# Altium integrated library STMicroelectronics Power Management DC-DC Conversion.IntLib: 186 symbols (part 4 of 4)
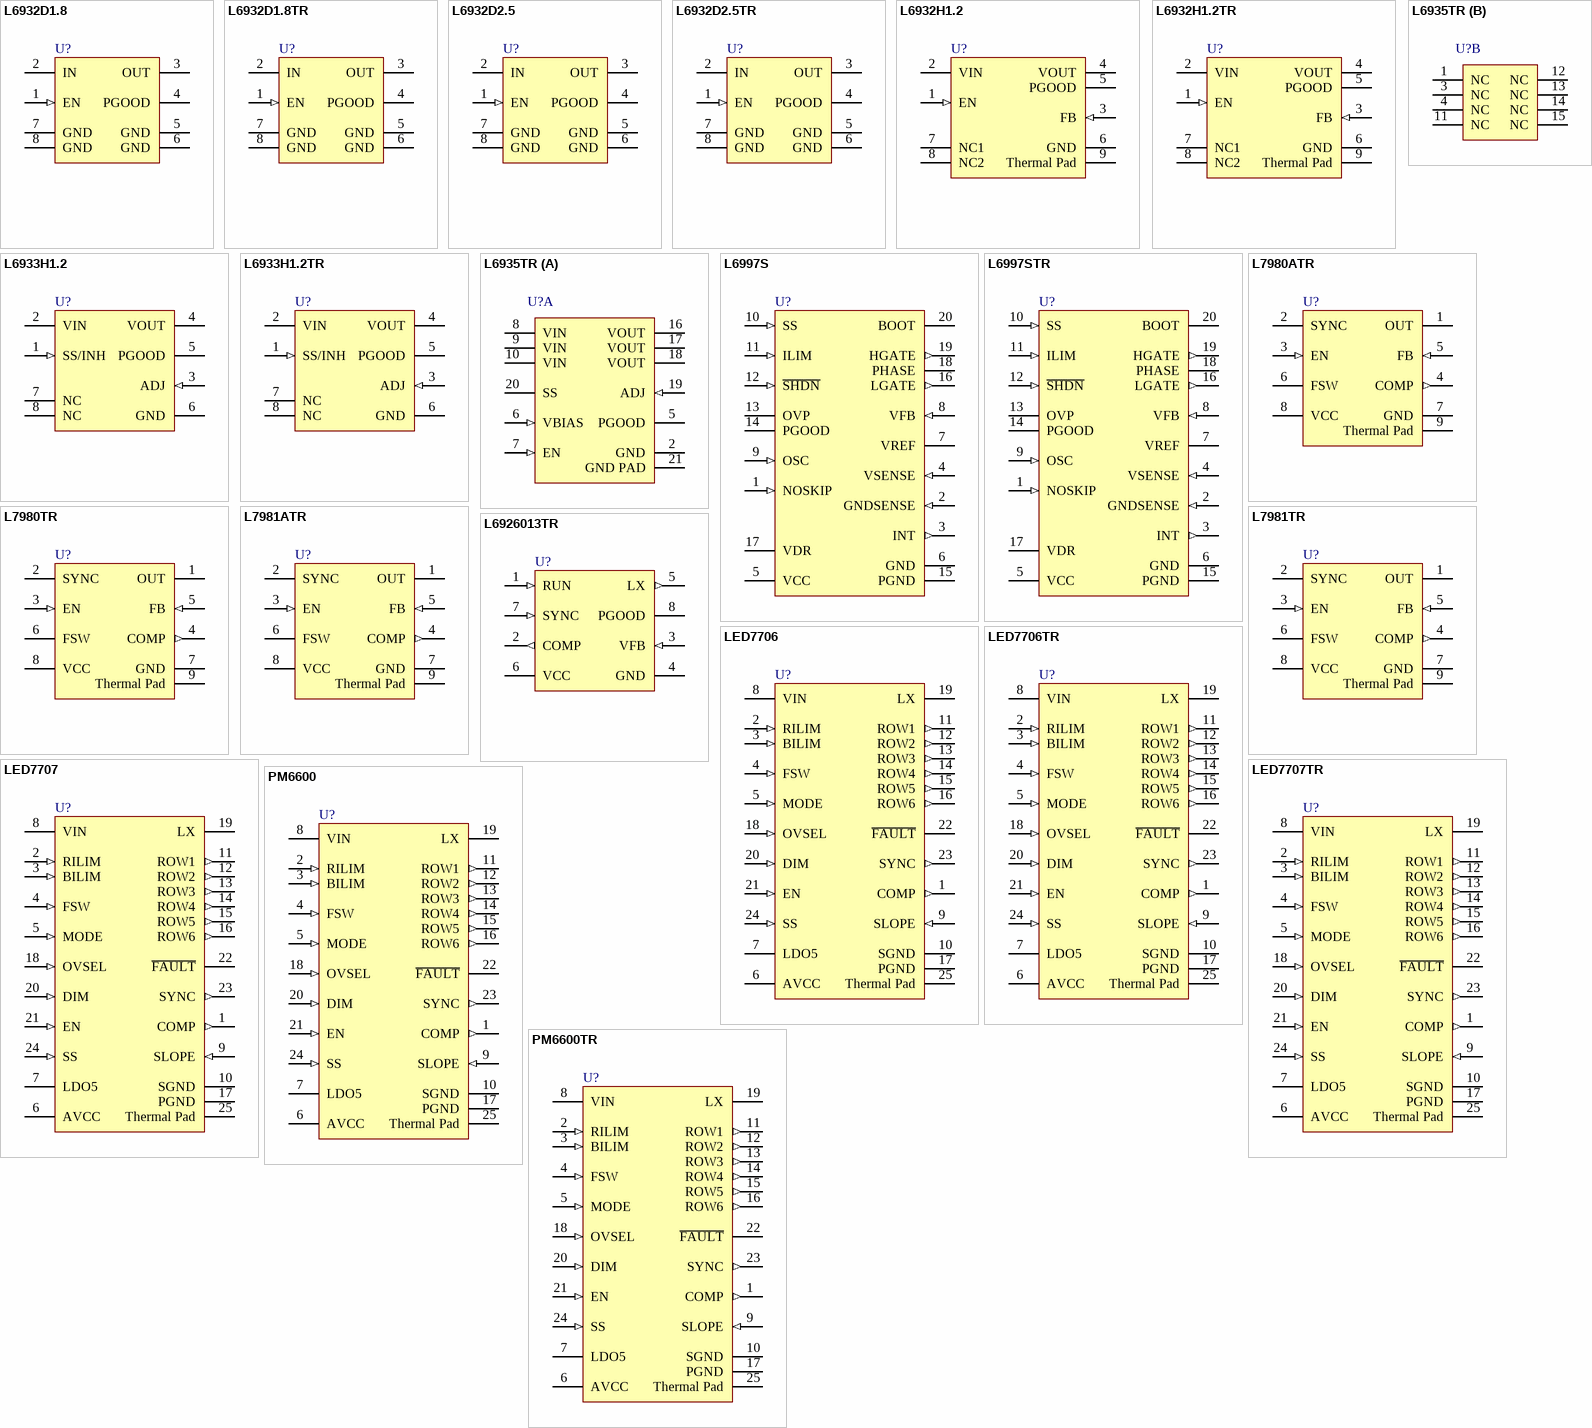
[diagram p10: symbols L6932D1.8 to PM6600TR]

## LED7707TR
designator U?
6-rows 85 mA LEDs driver with boost regulator for LCD panel backlight, 24-Pin QFN, Tape and Reel; DatasheetVersion: Apr-2009; PackageVersion: 2010; PackageReference: VFQFPN-24; PackageDescription: 24-Pin Quad Flat No-Lead, 4 x 4 mm Body, 0.5 mm Pitch, Exposed Pad; ComponentLink1Description: Manufacturer URL; ComponentLink1URL: http://www.st.com; ComponentLink2Description: Datasheet; ComponentLink2URL: http://www.st.com/internet/com/TECHNICAL_RESOURCES/TECHNICAL_LITERATURE/DATASHEET/CD00185352.pdf
footprint VFQFPN-24_N (QFN, 24-Leads, Body 4x4mm, Pitch 0.5mm, Thermal Pad 2.5x2.5mm, IPC Medium Density)
footprint VFQFPN-24_L (QFN, 24-Leads, Body 4x4mm, Pitch 0.5mm, Thermal Pad 2.5x2.5mm, IPC High Density)
footprint VFQFPN-24_M (QFN, 24-Leads, Body 4x4mm, Pitch 0.5mm, Thermal Pad 2.5x2.5mm, IPC Low Density)
pins: 1 COMP (out), 2 RILIM (in), 3 BILIM (in), 4 FSW (in), 5 MODE (in), 6 AVCC (power), 7 LDO5 (power), 8 VIN (power), 9 SLOPE (in), 10 SGND (power), 11 ROW1 (out), 12 ROW2 (out), 13 ROW3 (out), 14 ROW4 (out), 15 ROW5 (out), 16 ROW6 (out), 17 PGND (power), 18 OVSEL (in), 19 LX (oc), 20 DIM (in), 21 EN (in), 22 ~{FAULT} (oc), 23 SYNC (out), 24 SS (in), 25 Thermal Pad (power)

## PM6600
designator U?
6-rows 32 mA LEDs driver with boost regulator for LCD panel backlight, 24-Pin QFN, Tube; DatasheetVersion: Feb-2010; PackageVersion: 2010; PackageReference: VFQFPN-24; PackageDescription: 24-Pin Quad Flat No-Lead, 4 x 4 mm Body, 0.5 mm Pitch, Exposed Pad; ComponentLink1Description: Manufacturer URL; ComponentLink1URL: http://www.st.com; ComponentLink2Description: Datasheet; ComponentLink2URL: http://www.st.com/internet/com/TECHNICAL_RESOURCES/TECHNICAL_LITERATURE/DATASHEET/CD00178891.pdf
footprint VFQFPN-24_N (QFN, 24-Leads, Body 4x4mm, Pitch 0.5mm, Thermal Pad 2.5x2.5mm, IPC Medium Density)
footprint VFQFPN-24_L (QFN, 24-Leads, Body 4x4mm, Pitch 0.5mm, Thermal Pad 2.5x2.5mm, IPC High Density)
footprint VFQFPN-24_M (QFN, 24-Leads, Body 4x4mm, Pitch 0.5mm, Thermal Pad 2.5x2.5mm, IPC Low Density)
pins: 1 COMP (out), 2 RILIM (in), 3 BILIM (in), 4 FSW (in), 5 MODE (in), 6 AVCC (power), 7 LDO5 (power), 8 VIN (power), 9 SLOPE (in), 10 SGND (power), 11 ROW1 (out), 12 ROW2 (out), 13 ROW3 (out), 14 ROW4 (out), 15 ROW5 (out), 16 ROW6 (out), 17 PGND (power), 18 OVSEL (in), 19 LX (oc), 20 DIM (in), 21 EN (in), 22 ~{FAULT} (oc), 23 SYNC (out), 24 SS (in), 25 Thermal Pad (power)

## PM6600TR
designator U?
6-rows 32 mA LEDs driver with boost regulator for LCD panel backlight, 24-Pin QFN, Tape and Reel; DatasheetVersion: Feb-2010; PackageVersion: 2010; PackageReference: VFQFPN-24; PackageDescription: 24-Pin Quad Flat No-Lead, 4 x 4 mm Body, 0.5 mm Pitch, Exposed Pad; ComponentLink1Description: Manufacturer URL; ComponentLink1URL: http://www.st.com; ComponentLink2Description: Datasheet; ComponentLink2URL: http://www.st.com/internet/com/TECHNICAL_RESOURCES/TECHNICAL_LITERATURE/DATASHEET/CD00178891.pdf
footprint VFQFPN-24_N (QFN, 24-Leads, Body 4x4mm, Pitch 0.5mm, Thermal Pad 2.5x2.5mm, IPC Medium Density)
footprint VFQFPN-24_L (QFN, 24-Leads, Body 4x4mm, Pitch 0.5mm, Thermal Pad 2.5x2.5mm, IPC High Density)
footprint VFQFPN-24_M (QFN, 24-Leads, Body 4x4mm, Pitch 0.5mm, Thermal Pad 2.5x2.5mm, IPC Low Density)
pins: 1 COMP (out), 2 RILIM (in), 3 BILIM (in), 4 FSW (in), 5 MODE (in), 6 AVCC (power), 7 LDO5 (power), 8 VIN (power), 9 SLOPE (in), 10 SGND (power), 11 ROW1 (out), 12 ROW2 (out), 13 ROW3 (out), 14 ROW4 (out), 15 ROW5 (out), 16 ROW6 (out), 17 PGND (power), 18 OVSEL (in), 19 LX (oc), 20 DIM (in), 21 EN (in), 22 ~{FAULT} (oc), 23 SYNC (out), 24 SS (in), 25 Thermal Pad (power)

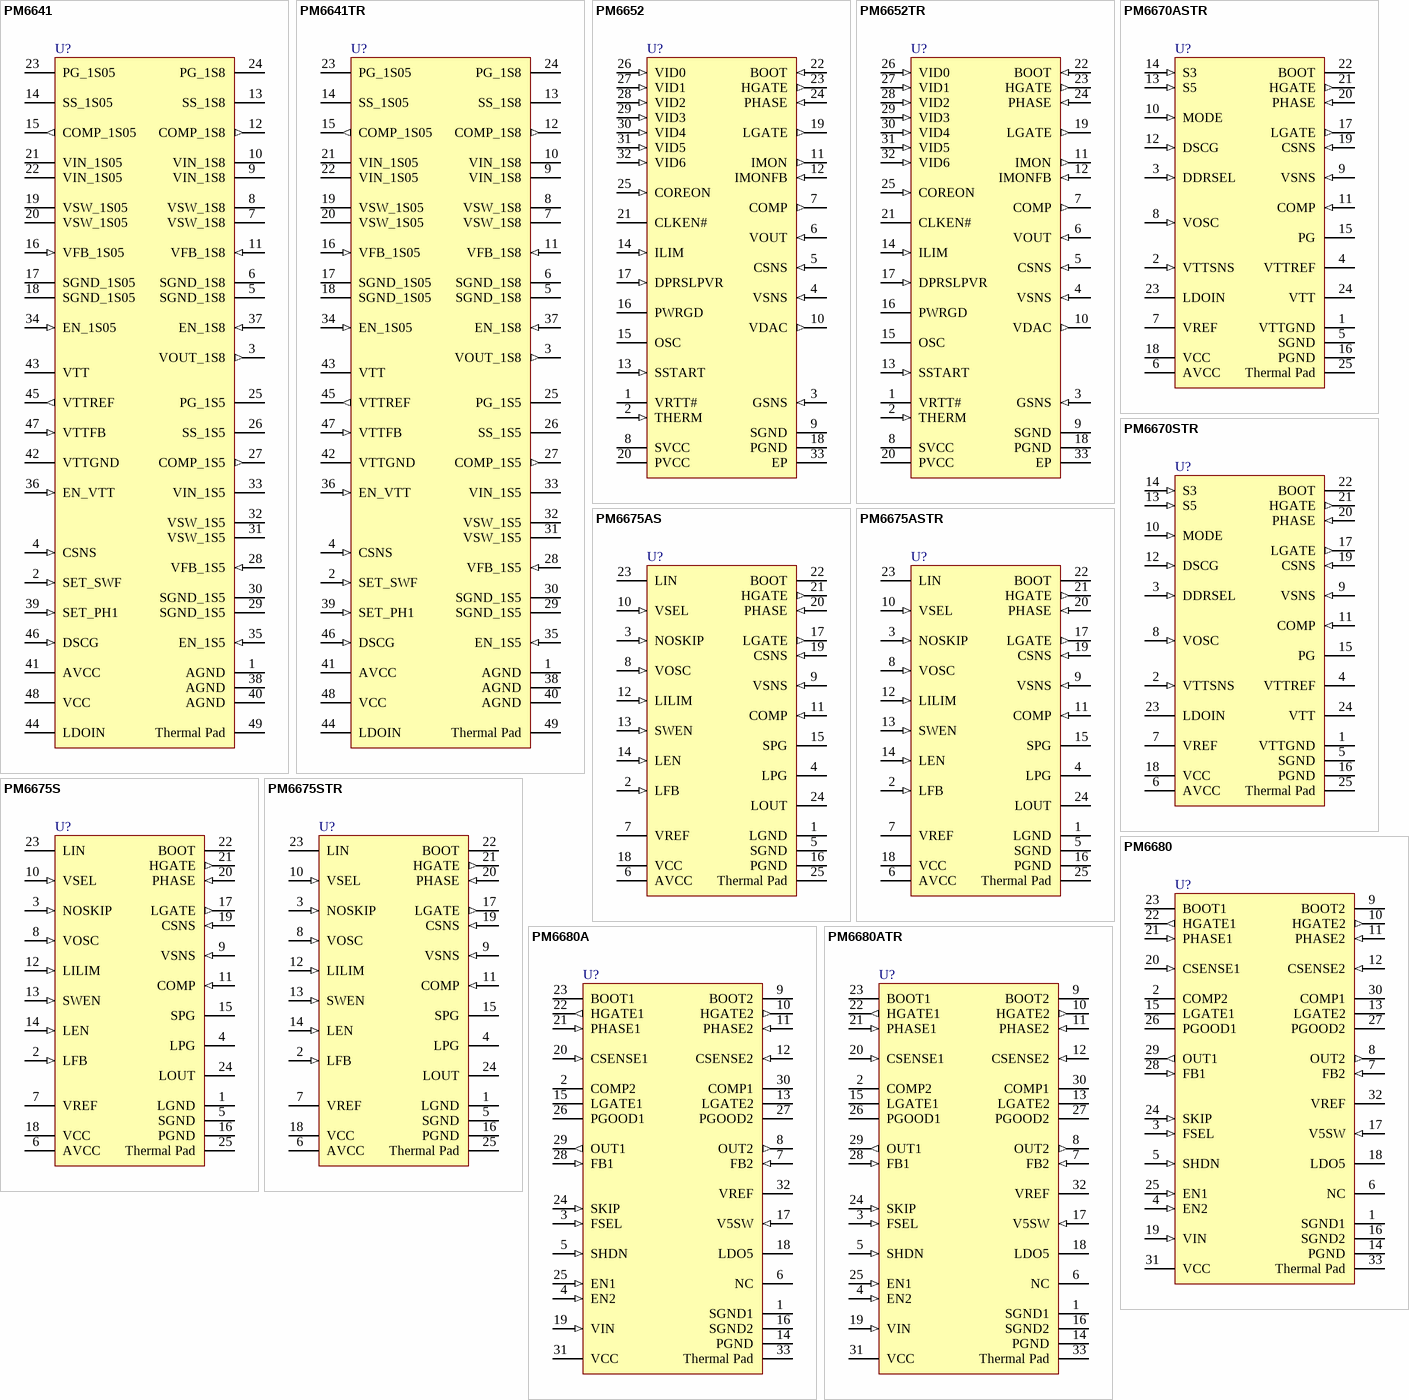
[diagram p6: symbols PM6641 to PM6680ATR]

## PM6641
designator U?
Monolithic VR for Chipset and DDR2/3 Supply for Ultra-Mobile PC (UMPC) Applications, 48-Pin VFQFPN, Tray; DatasheetVersion: May-2009; PackageVersion: 2009; PackageReference: VFQFPN-48; PackageDescription: 48-Pin Quad Flat No-Lead, 7 x 7 mm Body, 0.5 mm Pitch, Exposed Pad; ComponentLink1Description: Manufacturer URL; ComponentLink1URL: http://www.st.com; ComponentLink2Description: Datasheet; ComponentLink2URL: http://www.st.com/internet/com/TECHNICAL_RESOURCES/TECHNICAL_LITERATURE/DATASHEET/CD00159862.pdf
footprint VFQFPN-48_N (QFN, 48-Leads, Body 7x7mm, Pitch 0.5mm, Thermal Pad 4.7x4.7mm, IPC Medium Density)
footprint VFQFPN-48_L (QFN, 48-Leads, Body 7x7mm, Pitch 0.5mm, Thermal Pad 4.7x4.7mm, IPC High Density)
footprint VFQFPN-48_M (QFN, 48-Leads, Body 7x7mm, Pitch 0.5mm, Thermal Pad 4.7x4.7mm, IPC Low Density)
pins: 1 AGND (power), 2 SET_SWF (in), 3 VOUT_1S8 (out), 4 CSNS (in), 5 SGND_1S8 (power), 6 SGND_1S8 (power), 7 VSW_1S8 (power), 8 VSW_1S8 (power), 9 VIN_1S8 (power), 10 VIN_1S8 (power), 11 VFB_1S8 (in), 12 COMP_1S8 (out), 13 SS_1S8, 14 SS_1S05, 15 COMP_1S05 (out), 16 VFB_1S05 (in), 17 SGND_1S05 (power), 18 SGND_1S05 (power), 19 VSW_1S05 (power), 20 VSW_1S05 (power), 21 VIN_1S05 (power), 22 VIN_1S05 (power), 23 PG_1S05 (oc), 24 PG_1S8 (oc), 25 PG_1S5 (oc), 26 SS_1S5, 27 COMP_1S5 (out), 28 VFB_1S5 (in), 29 SGND_1S5 (power), 30 SGND_1S5 (power), 31 VSW_1S5 (power), 32 VSW_1S5 (power), 33 VIN_1S5 (power), 34 EN_1S05 (in), 35 EN_1S5 (in), 36 EN_VTT (in), 37 EN_1S8 (in), 38 AGND (power), 39 SET_PH1 (in), 40 AGND (power), 41 AVCC (power), 42 VTTGND (power), 43 VTT (power), 44 LDOIN (power), 45 VTTREF (out), 46 DSCG (in), 47 VTTFB (in), 48 VCC (power), 49 Thermal Pad (power)

## PM6641TR
designator U?
Monolithic VR for Chipset and DDR2/3 Supply for Ultra-Mobile PC (UMPC) Applications, 48-Pin VFQFPN, Tape and Reel; DatasheetVersion: May-2009; PackageVersion: 2009; PackageReference: VFQFPN-48; PackageDescription: 48-Pin Quad Flat No-Lead, 7 x 7 mm Body, 0.5 mm Pitch, Exposed Pad; ComponentLink1Description: Manufacturer URL; ComponentLink1URL: http://www.st.com; ComponentLink2Description: Datasheet; ComponentLink2URL: http://www.st.com/internet/com/TECHNICAL_RESOURCES/TECHNICAL_LITERATURE/DATASHEET/CD00159862.pdf
footprint VFQFPN-48_N (QFN, 48-Leads, Body 7x7mm, Pitch 0.5mm, Thermal Pad 4.7x4.7mm, IPC Medium Density)
footprint VFQFPN-48_L (QFN, 48-Leads, Body 7x7mm, Pitch 0.5mm, Thermal Pad 4.7x4.7mm, IPC High Density)
footprint VFQFPN-48_M (QFN, 48-Leads, Body 7x7mm, Pitch 0.5mm, Thermal Pad 4.7x4.7mm, IPC Low Density)
pins: 1 AGND (power), 2 SET_SWF (in), 3 VOUT_1S8 (out), 4 CSNS (in), 5 SGND_1S8 (power), 6 SGND_1S8 (power), 7 VSW_1S8 (power), 8 VSW_1S8 (power), 9 VIN_1S8 (power), 10 VIN_1S8 (power), 11 VFB_1S8 (in), 12 COMP_1S8 (out), 13 SS_1S8, 14 SS_1S05, 15 COMP_1S05 (out), 16 VFB_1S05 (in), 17 SGND_1S05 (power), 18 SGND_1S05 (power), 19 VSW_1S05 (power), 20 VSW_1S05 (power), 21 VIN_1S05 (power), 22 VIN_1S05 (power), 23 PG_1S05 (oc), 24 PG_1S8 (oc), 25 PG_1S5 (oc), 26 SS_1S5, 27 COMP_1S5 (out), 28 VFB_1S5 (in), 29 SGND_1S5 (power), 30 SGND_1S5 (power), 31 VSW_1S5 (power), 32 VSW_1S5 (power), 33 VIN_1S5 (power), 34 EN_1S05 (in), 35 EN_1S5 (in), 36 EN_VTT (in), 37 EN_1S8 (in), 38 AGND (power), 39 SET_PH1 (in), 40 AGND (power), 41 AVCC (power), 42 VTTGND (power), 43 VTT (power), 44 LDOIN (power), 45 VTTREF (out), 46 DSCG (in), 47 VTTFB (in), 48 VCC (power), 49 Thermal Pad (power)

## PM6652
designator U?
Single-phase multifunctional DC-DC controller for Intel platforms, 32-Pin VFQFPN, Tray; DatasheetVersion: May-2010; PackageVersion: 2008; PackageReference: VQFPN32; PackageDescription: 32-Pin Thermally Enhanced Very thin Fine pitch Quad Flat Package No-Lead, 5 x 5 x 1 mm Body, 0.5 mm Pitch, Exposed Pad; ComponentLink1Description: Manufacturer URL; ComponentLink1URL: http://www.st.com; ComponentLink2Description: Datasheet; ComponentLink2URL: http://www.st.com/internet/com/TECHNICAL_RESOURCES/TECHNICAL_LITERATURE/DATASHEET/CD00258607.pdf
footprint VQFPN32_N (QFN, 32-Leads, Body 5x5mm, Pitch 0.5mm, Thermal Pad 3.1x3.1mm, IPC Medium Density)
footprint VQFPN32_L (QFN, 32-Leads, Body 5x5mm, Pitch 0.5mm, Thermal Pad 3.1x3.1mm, IPC High Density)
footprint VQFPN32_M (QFN, 32-Leads, Body 5x5mm, Pitch 0.5mm, Thermal Pad 3.1x3.1mm, IPC Low Density)
pins: 1 VRTT# (oc), 2 THERM (in), 3 GSNS (in), 4 VSNS (in), 5 CSNS (in), 6 VOUT (in), 7 COMP (out), 8 SVCC (power), 9 SGND (power), 10 VDAC (out), 11 IMON (out), 12 IMONFB (in), 13 SSTART (in), 14 ILIM (in), 15 OSC, 16 PWRGD (oc), 17 DPRSLPVR (in), 18 PGND (power), 19 LGATE (out), 20 PVCC (power), 21 CLKEN# (oc), 22 BOOT (in), 23 HGATE (out), 24 PHASE (in), 25 COREON (in), 26 VID0 (in), 27 VID1 (in), 28 VID2 (in), 29 VID3 (in), 30 VID4 (in), 31 VID5 (in), 32 VID6 (in), 33 EP (power)

## PM6652TR
designator U?
Single-phase multifunctional DC-DC controller for Intel platforms, 32-Pin VFQFPN, Tape and Reel; DatasheetVersion: May-2010; PackageVersion: 2008; PackageReference: VQFPN32; PackageDescription: 32-Pin Thermally Enhanced Very thin Fine pitch Quad Flat Package No-Lead, 5 x 5 x 1 mm Body, 0.5 mm Pitch, Exposed Pad; ComponentLink1Description: Manufacturer URL; ComponentLink1URL: http://www.st.com; ComponentLink2Description: Datasheet; ComponentLink2URL: http://www.st.com/internet/com/TECHNICAL_RESOURCES/TECHNICAL_LITERATURE/DATASHEET/CD00258607.pdf
footprint VQFPN32_N (QFN, 32-Leads, Body 5x5mm, Pitch 0.5mm, Thermal Pad 3.1x3.1mm, IPC Medium Density)
footprint VQFPN32_L (QFN, 32-Leads, Body 5x5mm, Pitch 0.5mm, Thermal Pad 3.1x3.1mm, IPC High Density)
footprint VQFPN32_M (QFN, 32-Leads, Body 5x5mm, Pitch 0.5mm, Thermal Pad 3.1x3.1mm, IPC Low Density)
pins: 1 VRTT# (oc), 2 THERM (in), 3 GSNS (in), 4 VSNS (in), 5 CSNS (in), 6 VOUT (in), 7 COMP (out), 8 SVCC (power), 9 SGND (power), 10 VDAC (out), 11 IMON (out), 12 IMONFB (in), 13 SSTART (in), 14 ILIM (in), 15 OSC, 16 PWRGD (oc), 17 DPRSLPVR (in), 18 PGND (power), 19 LGATE (out), 20 PVCC (power), 21 CLKEN# (oc), 22 BOOT (in), 23 HGATE (out), 24 PHASE (in), 25 COREON (in), 26 VID0 (in), 27 VID1 (in), 28 VID2 (in), 29 VID3 (in), 30 VID4 (in), 31 VID5 (in), 32 VID6 (in), 33 EP (power)

## PM6670ASTR
designator U?
Complete DDR 2/3 memory power supply controller, 24-Pin VFQFPN, Tape and Reel; DatasheetVersion: Feb-2010; PackageVersion: 2010; PackageReference: VFQFPN-24; PackageDescription: 24-Pin Quad Flat No-Lead, 4 x 4 mm Body, 0.5 mm Pitch, Exposed Pad; ComponentLink1Description: Manufacturer URL; ComponentLink1URL: http://www.st.com; ComponentLink2Description: Datasheet; ComponentLink2URL: http://www.st.com/internet/com/TECHNICAL_RESOURCES/TECHNICAL_LITERATURE/DATASHEET/CD00185468.pdf
footprint VFQFPN-24_N (QFN, 24-Leads, Body 4x4mm, Pitch 0.5mm, Thermal Pad 2.5x2.5mm, IPC Medium Density)
footprint VFQFPN-24_L (QFN, 24-Leads, Body 4x4mm, Pitch 0.5mm, Thermal Pad 2.5x2.5mm, IPC High Density)
footprint VFQFPN-24_M (QFN, 24-Leads, Body 4x4mm, Pitch 0.5mm, Thermal Pad 2.5x2.5mm, IPC Low Density)
pins: 1 VTTGND (power), 2 VTTSNS (in), 3 DDRSEL (in), 4 VTTREF (power), 5 SGND (power), 6 AVCC (power), 7 VREF (power), 8 VOSC (in), 9 VSNS (in), 10 MODE (in), 11 COMP (in), 12 DSCG (in), 13 S5 (in), 14 S3 (in), 15 PG (oc), 16 PGND (power), 17 LGATE (out), 18 VCC (power), 19 CSNS (in), 20 PHASE (in), 21 HGATE (out), 22 BOOT, 23 LDOIN (power), 24 VTT (hiz), 25 Thermal Pad (power)

## PM6670STR
designator U?
Complete DDR 2/3 memory power supply controller, 24-Pin VFQFPN, Tape and Reel; DatasheetVersion: Feb-2010; PackageVersion: 2010; PackageReference: VFQFPN-24; PackageDescription: 24-Pin Quad Flat No-Lead, 4 x 4 mm Body, 0.5 mm Pitch, Exposed Pad; ComponentLink1Description: Manufacturer URL; ComponentLink1URL: http://www.st.com; ComponentLink2Description: Datasheet; ComponentLink2URL: http://www.st.com/internet/com/TECHNICAL_RESOURCES/TECHNICAL_LITERATURE/DATASHEET/CD00185390.pdf
footprint VFQFPN-24_N (QFN, 24-Leads, Body 4x4mm, Pitch 0.5mm, Thermal Pad 2.5x2.5mm, IPC Medium Density)
footprint VFQFPN-24_L (QFN, 24-Leads, Body 4x4mm, Pitch 0.5mm, Thermal Pad 2.5x2.5mm, IPC High Density)
footprint VFQFPN-24_M (QFN, 24-Leads, Body 4x4mm, Pitch 0.5mm, Thermal Pad 2.5x2.5mm, IPC Low Density)
pins: 1 VTTGND (power), 2 VTTSNS (in), 3 DDRSEL (in), 4 VTTREF (power), 5 SGND (power), 6 AVCC (power), 7 VREF (power), 8 VOSC (in), 9 VSNS (in), 10 MODE (in), 11 COMP (in), 12 DSCG (in), 13 S5 (in), 14 S3 (in), 15 PG (oc), 16 PGND (power), 17 LGATE (out), 18 VCC (power), 19 CSNS (in), 20 PHASE (in), 21 HGATE (out), 22 BOOT, 23 LDOIN (power), 24 VTT (hiz), 25 Thermal Pad (power)

## PM6675AS
designator U?
High efficiency step down controller with embedded 2A LDO regulator, 24-Pin VFQFPN, Tube; DatasheetVersion: Feb-2008; PackageVersion: 2008; PackageReference: QFN24; PackageDescription: 24-Pin Quad Flat No-Lead, 4 x 4 mm Body, 0.5 mm Pitch, Exposed Pad; ComponentLink1Description: Manufacturer URL; ComponentLink1URL: http://www.st.com; ComponentLink2Description: Datasheet; ComponentLink2URL: http://www.st.com/internet/com/TECHNICAL_RESOURCES/TECHNICAL_LITERATURE/DATASHEET/CD00185797.pdf
footprint QFN24_N (QFN, 24-Leads, Body 4x4mm, Pitch 0.5mm, Thermal Pad 2.1x2.1mm, IPC Medium Density)
footprint QFN24_L (QFN, 24-Leads, Body 4x4mm, Pitch 0.5mm, Thermal Pad 2.1x2.1mm, IPC High Density)
footprint QFN24_M (QFN, 24-Leads, Body 4x4mm, Pitch 0.5mm, Thermal Pad 2.1x2.1mm, IPC Low Density)
pins: 1 LGND (power), 2 LFB (in), 3 NOSKIP (in), 4 LPG (oc), 5 SGND (power), 6 AVCC (power), 7 VREF (power), 8 VOSC (in), 9 VSNS (in), 10 VSEL (in), 11 COMP (in), 12 LILIM (in), 13 SWEN (in), 14 LEN (in), 15 SPG (oc), 16 PGND (power), 17 LGATE (out), 18 VCC (power), 19 CSNS (in), 20 PHASE (in), 21 HGATE (out), 22 BOOT, 23 LIN (power), 24 LOUT (power), 25 Thermal Pad (power)

## PM6675ASTR
designator U?
High efficiency step down controller with embedded 2A LDO regulator, 24-Pin VFQFPN, Tape and Reel; DatasheetVersion: Feb-2008; PackageVersion: 2008; PackageReference: QFN24; PackageDescription: 24-Pin Quad Flat No-Lead, 4 x 4 mm Body, 0.5 mm Pitch, Exposed Pad; ComponentLink1Description: Manufacturer URL; ComponentLink1URL: http://www.st.com; ComponentLink2Description: Datasheet; ComponentLink2URL: http://www.st.com/internet/com/TECHNICAL_RESOURCES/TECHNICAL_LITERATURE/DATASHEET/CD00185797.pdf
footprint QFN24_N (QFN, 24-Leads, Body 4x4mm, Pitch 0.5mm, Thermal Pad 2.1x2.1mm, IPC Medium Density)
footprint QFN24_L (QFN, 24-Leads, Body 4x4mm, Pitch 0.5mm, Thermal Pad 2.1x2.1mm, IPC High Density)
footprint QFN24_M (QFN, 24-Leads, Body 4x4mm, Pitch 0.5mm, Thermal Pad 2.1x2.1mm, IPC Low Density)
pins: 1 LGND (power), 2 LFB (in), 3 NOSKIP (in), 4 LPG (oc), 5 SGND (power), 6 AVCC (power), 7 VREF (power), 8 VOSC (in), 9 VSNS (in), 10 VSEL (in), 11 COMP (in), 12 LILIM (in), 13 SWEN (in), 14 LEN (in), 15 SPG (oc), 16 PGND (power), 17 LGATE (out), 18 VCC (power), 19 CSNS (in), 20 PHASE (in), 21 HGATE (out), 22 BOOT, 23 LIN (power), 24 LOUT (power), 25 Thermal Pad (power)

## PM6675S
designator U?
High efficiency step down controller with embedded 2A LDO regulator, 24-Pin QFN, Tube; DatasheetVersion: Feb-2008; PackageVersion: 2010; PackageReference: VFQFPN-24; PackageDescription: 24-Pin Quad Flat No-Lead, 4 x 4 mm Body, 0.5 mm Pitch, Exposed Pad; ComponentLink1Description: Manufacturer URL; ComponentLink1URL: http://www.st.com; ComponentLink2Description: Datasheet; ComponentLink2URL: http://www.st.com/internet/com/TECHNICAL_RESOURCES/TECHNICAL_LITERATURE/DATASHEET/CD00185452.pdf
footprint VFQFPN-24_N (QFN, 24-Leads, Body 4x4mm, Pitch 0.5mm, Thermal Pad 2.5x2.5mm, IPC Medium Density)
footprint VFQFPN-24_L (QFN, 24-Leads, Body 4x4mm, Pitch 0.5mm, Thermal Pad 2.5x2.5mm, IPC High Density)
footprint VFQFPN-24_M (QFN, 24-Leads, Body 4x4mm, Pitch 0.5mm, Thermal Pad 2.5x2.5mm, IPC Low Density)
pins: 1 LGND (power), 2 LFB (in), 3 NOSKIP (in), 4 LPG (oc), 5 SGND (power), 6 AVCC (power), 7 VREF (power), 8 VOSC (in), 9 VSNS (in), 10 VSEL (in), 11 COMP (in), 12 LILIM (in), 13 SWEN (in), 14 LEN (in), 15 SPG (oc), 16 PGND (power), 17 LGATE (out), 18 VCC (power), 19 CSNS (in), 20 PHASE (in), 21 HGATE (out), 22 BOOT, 23 LIN (power), 24 LOUT (power), 25 Thermal Pad (power)

## PM6675STR
designator U?
High efficiency step down controller with embedded 2A LDO regulator, 24-Pin QFN, Tape and Reel; DatasheetVersion: Feb-2008; PackageVersion: 2010; PackageReference: VFQFPN-24; PackageDescription: 24-Pin Quad Flat No-Lead, 4 x 4 mm Body, 0.5 mm Pitch, Exposed Pad; ComponentLink1Description: Manufacturer URL; ComponentLink1URL: http://www.st.com; ComponentLink2Description: Datasheet; ComponentLink2URL: http://www.st.com/internet/com/TECHNICAL_RESOURCES/TECHNICAL_LITERATURE/DATASHEET/CD00185452.pdf
footprint VFQFPN-24_N (QFN, 24-Leads, Body 4x4mm, Pitch 0.5mm, Thermal Pad 2.5x2.5mm, IPC Medium Density)
footprint VFQFPN-24_L (QFN, 24-Leads, Body 4x4mm, Pitch 0.5mm, Thermal Pad 2.5x2.5mm, IPC High Density)
footprint VFQFPN-24_M (QFN, 24-Leads, Body 4x4mm, Pitch 0.5mm, Thermal Pad 2.5x2.5mm, IPC Low Density)
pins: 1 LGND (power), 2 LFB (in), 3 NOSKIP (in), 4 LPG (oc), 5 SGND (power), 6 AVCC (power), 7 VREF (power), 8 VOSC (in), 9 VSNS (in), 10 VSEL (in), 11 COMP (in), 12 LILIM (in), 13 SWEN (in), 14 LEN (in), 15 SPG (oc), 16 PGND (power), 17 LGATE (out), 18 VCC (power), 19 CSNS (in), 20 PHASE (in), 21 HGATE (out), 22 BOOT, 23 LIN (power), 24 LOUT (power), 25 Thermal Pad (power)

## PM6680
designator U?
Dual step-down controller with adjustable voltages for notebook system power, 32-Pin VFQFPN, Tray; DatasheetVersion: Jan-2008; PackageVersion: 2008; PackageReference: VQFPN32; PackageDescription: 32-Pin Thermally Enhanced Very thin Fine pitch Quad Flat Package No-Lead, 5 x 5 x 1 mm Body, 0.5 mm Pitch, Exposed Pad; ComponentLink1Description: Manufacturer URL; ComponentLink1URL: http://www.st.com; ComponentLink2Description: Datasheet; ComponentLink2URL: http://www.st.com/internet/com/TECHNICAL_RESOURCES/TECHNICAL_LITERATURE/DATASHEET/CD00097929.pdf
footprint VQFPN32_N (QFN, 32-Leads, Body 5x5mm, Pitch 0.5mm, Thermal Pad 3.1x3.1mm, IPC Medium Density)
footprint VQFPN32_L (QFN, 32-Leads, Body 5x5mm, Pitch 0.5mm, Thermal Pad 3.1x3.1mm, IPC High Density)
footprint VQFPN32_M (QFN, 32-Leads, Body 5x5mm, Pitch 0.5mm, Thermal Pad 3.1x3.1mm, IPC Low Density)
pins: 1 SGND1 (power), 2 COMP2, 3 FSEL (in), 4 EN2 (in), 5 SHDN (in), 6 NC, 7 FB2 (in), 8 OUT2 (out), 9 BOOT2, 10 HGATE2 (out), 11 PHASE2 (in), 12 CSENSE2 (in), 13 LGATE2 (hiz), 14 PGND (power), 15 LGATE1 (hiz), 16 SGND2 (power), 17 V5SW (in), 18 LDO5 (power), 19 VIN (in), 20 CSENSE1 (in), 21 PHASE1 (in), 22 HGATE1 (out), 23 BOOT1, 24 SKIP (in), 25 EN1 (in), 26 PGOOD1 (oc), 27 PGOOD2 (oc), 28 FB1 (in), 29 OUT1 (out), 30 COMP1, 31 VCC (power), 32 VREF (power), 33 Thermal Pad (power)

## PM6680A
designator U?
Dual synchronous step down controller with adjustable output voltages plus LDO, 32-Pin VFQFPN, Tube; DatasheetVersion: Dec-2007; PackageVersion: 2008; PackageReference: VQFPN32; PackageDescription: 32-Pin Thermally Enhanced Very thin Fine pitch Quad Flat Package No-Lead, 5 x 5 x 1 mm Body, 0.5 mm Pitch, Exposed Pad; ComponentLink1Description: Manufacturer URL; ComponentLink1URL: http://www.st.com; ComponentLink2Description: Datasheet; ComponentLink2URL: http://www.st.com/internet/com/TECHNICAL_RESOURCES/TECHNICAL_LITERATURE/DATASHEET/CD00135901.pdf
footprint VQFPN32_N (QFN, 32-Leads, Body 5x5mm, Pitch 0.5mm, Thermal Pad 3.1x3.1mm, IPC Medium Density)
footprint VQFPN32_L (QFN, 32-Leads, Body 5x5mm, Pitch 0.5mm, Thermal Pad 3.1x3.1mm, IPC High Density)
footprint VQFPN32_M (QFN, 32-Leads, Body 5x5mm, Pitch 0.5mm, Thermal Pad 3.1x3.1mm, IPC Low Density)
pins: 1 SGND1 (power), 2 COMP2, 3 FSEL (in), 4 EN2 (in), 5 SHDN (in), 6 NC, 7 FB2 (in), 8 OUT2 (out), 9 BOOT2, 10 HGATE2 (out), 11 PHASE2 (in), 12 CSENSE2 (in), 13 LGATE2 (hiz), 14 PGND (power), 15 LGATE1 (hiz), 16 SGND2 (power), 17 V5SW (in), 18 LDO5 (power), 19 VIN (in), 20 CSENSE1 (in), 21 PHASE1 (in), 22 HGATE1 (out), 23 BOOT1, 24 SKIP (in), 25 EN1 (in), 26 PGOOD1 (oc), 27 PGOOD2 (oc), 28 FB1 (in), 29 OUT1 (out), 30 COMP1, 31 VCC (power), 32 VREF (power), 33 Thermal Pad (power)

## PM6680ATR
designator U?
Dual synchronous step down controller with adjustable output voltages plus LDO, 32-Pin VFQFPN, Tape and Reel; DatasheetVersion: Dec-2007; PackageVersion: 2008; PackageReference: VQFPN32; PackageDescription: 32-Pin Thermally Enhanced Very thin Fine pitch Quad Flat Package No-Lead, 5 x 5 x 1 mm Body, 0.5 mm Pitch, Exposed Pad; ComponentLink1Description: Manufacturer URL; ComponentLink1URL: http://www.st.com; ComponentLink2Description: Datasheet; ComponentLink2URL: http://www.st.com/internet/com/TECHNICAL_RESOURCES/TECHNICAL_LITERATURE/DATASHEET/CD00135901.pdf
footprint VQFPN32_N (QFN, 32-Leads, Body 5x5mm, Pitch 0.5mm, Thermal Pad 3.1x3.1mm, IPC Medium Density)
footprint VQFPN32_L (QFN, 32-Leads, Body 5x5mm, Pitch 0.5mm, Thermal Pad 3.1x3.1mm, IPC High Density)
footprint VQFPN32_M (QFN, 32-Leads, Body 5x5mm, Pitch 0.5mm, Thermal Pad 3.1x3.1mm, IPC Low Density)
pins: 1 SGND1 (power), 2 COMP2, 3 FSEL (in), 4 EN2 (in), 5 SHDN (in), 6 NC, 7 FB2 (in), 8 OUT2 (out), 9 BOOT2, 10 HGATE2 (out), 11 PHASE2 (in), 12 CSENSE2 (in), 13 LGATE2 (hiz), 14 PGND (power), 15 LGATE1 (hiz), 16 SGND2 (power), 17 V5SW (in), 18 LDO5 (power), 19 VIN (in), 20 CSENSE1 (in), 21 PHASE1 (in), 22 HGATE1 (out), 23 BOOT1, 24 SKIP (in), 25 EN1 (in), 26 PGOOD1 (oc), 27 PGOOD2 (oc), 28 FB1 (in), 29 OUT1 (out), 30 COMP1, 31 VCC (power), 32 VREF (power), 33 Thermal Pad (power)

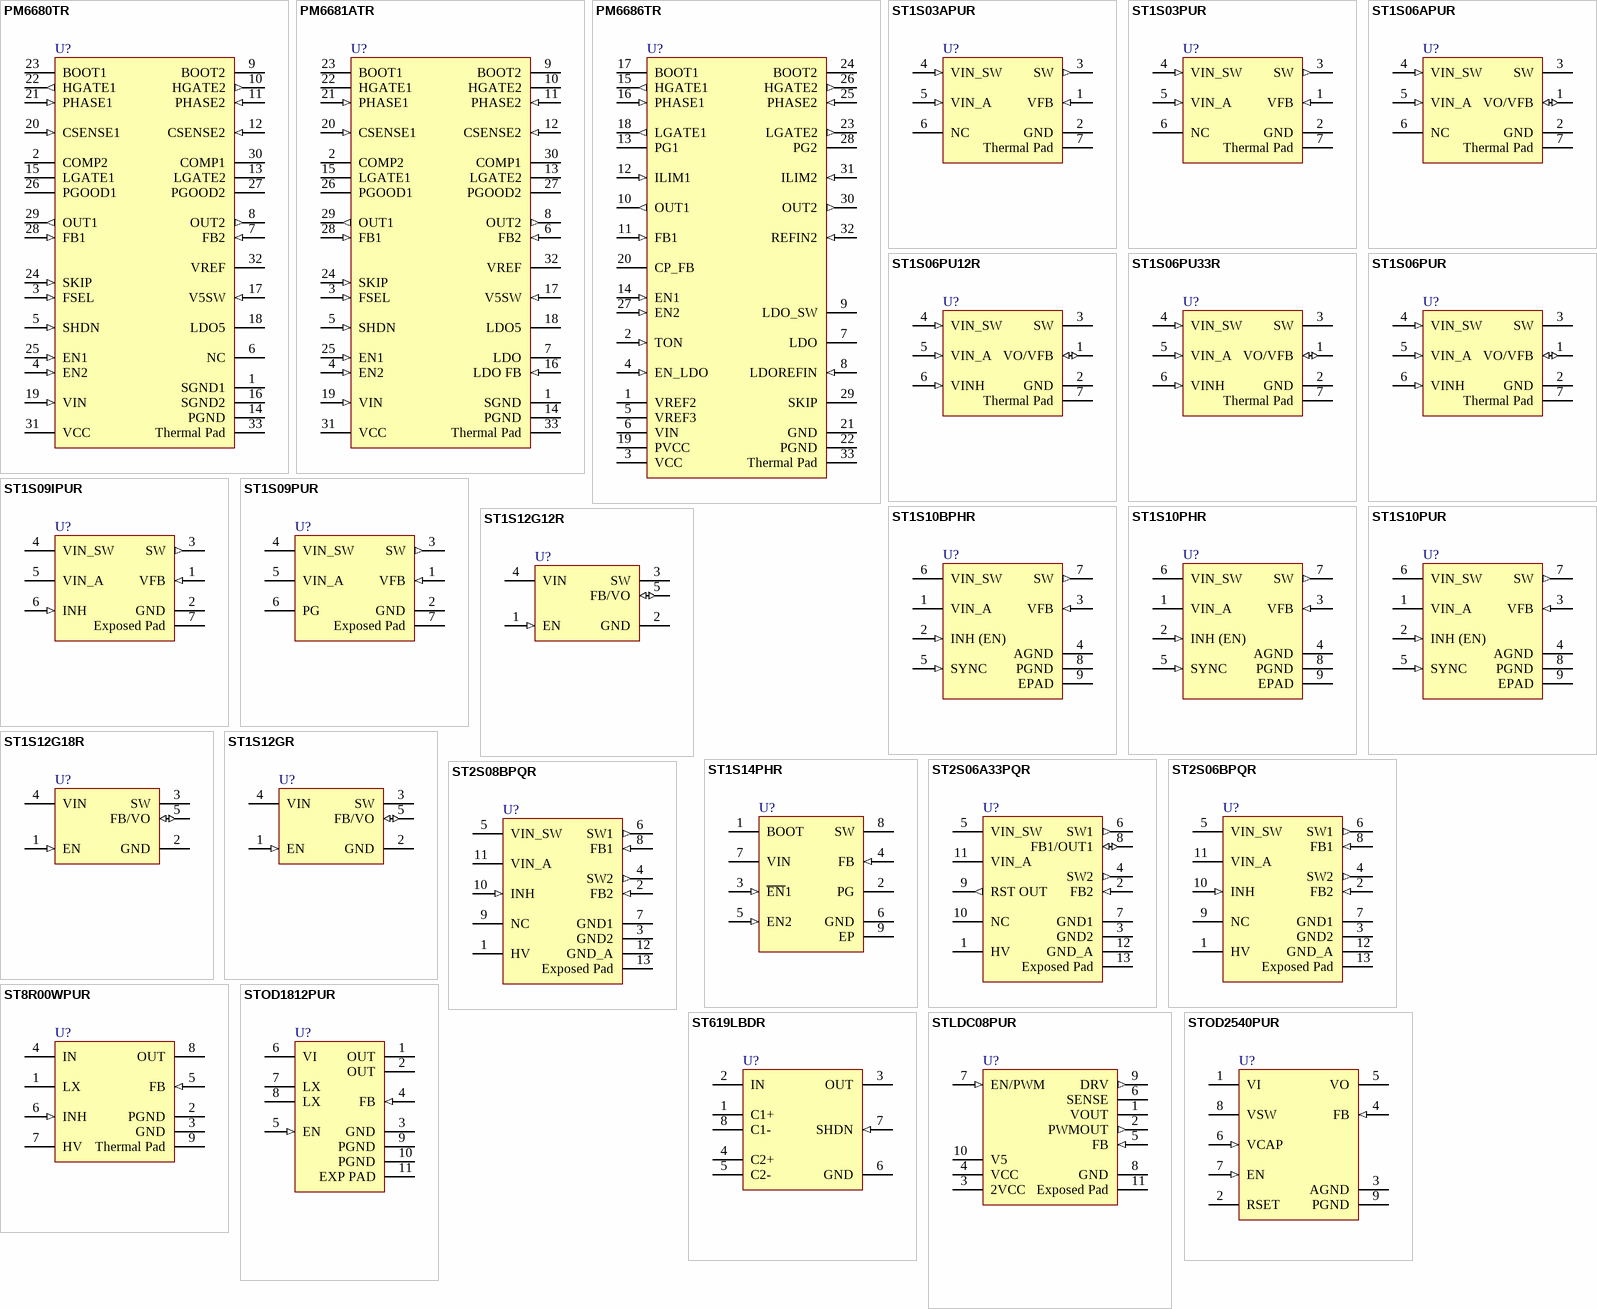
[diagram p7: symbols PM6680TR to STOD2540PUR]

## PM6680TR
designator U?
Dual step-down controller with adjustable voltages for notebook system power, 32-Pin VFQFPN, Tape and Reel; DatasheetVersion: Jan-2008; PackageVersion: 2008; PackageReference: VQFPN32; PackageDescription: 32-Pin Thermally Enhanced Very thin Fine pitch Quad Flat Package No-Lead, 5 x 5 x 1 mm Body, 0.5 mm Pitch, Exposed Pad; ComponentLink1Description: Manufacturer URL; ComponentLink1URL: http://www.st.com; ComponentLink2Description: Datasheet; ComponentLink2URL: http://www.st.com/internet/com/TECHNICAL_RESOURCES/TECHNICAL_LITERATURE/DATASHEET/CD00097929.pdf
footprint VQFPN32_N (QFN, 32-Leads, Body 5x5mm, Pitch 0.5mm, Thermal Pad 3.1x3.1mm, IPC Medium Density)
footprint VQFPN32_L (QFN, 32-Leads, Body 5x5mm, Pitch 0.5mm, Thermal Pad 3.1x3.1mm, IPC High Density)
footprint VQFPN32_M (QFN, 32-Leads, Body 5x5mm, Pitch 0.5mm, Thermal Pad 3.1x3.1mm, IPC Low Density)
pins: 1 SGND1 (power), 2 COMP2, 3 FSEL (in), 4 EN2 (in), 5 SHDN (in), 6 NC, 7 FB2 (in), 8 OUT2 (out), 9 BOOT2, 10 HGATE2 (out), 11 PHASE2 (in), 12 CSENSE2 (in), 13 LGATE2 (hiz), 14 PGND (power), 15 LGATE1 (hiz), 16 SGND2 (power), 17 V5SW (in), 18 LDO5 (power), 19 VIN (in), 20 CSENSE1 (in), 21 PHASE1 (in), 22 HGATE1 (out), 23 BOOT1, 24 SKIP (in), 25 EN1 (in), 26 PGOOD1 (oc), 27 PGOOD2 (oc), 28 FB1 (in), 29 OUT1 (out), 30 COMP1, 31 VCC (power), 32 VREF (power), 33 Thermal Pad (power)

## PM6681ATR
designator U?
Dual synchronous step down controller with adjustable LDO, 32-Pin VFQFPN, Tape and Reel; DatasheetVersion: Jun-2008; PackageVersion: 2008; PackageReference: VQFPN32; PackageDescription: 32-Pin Thermally Enhanced Very thin Fine pitch Quad Flat Package No-Lead, 5 x 5 x 1 mm Body, 0.5 mm Pitch, Exposed Pad; ComponentLink1Description: Manufacturer URL; ComponentLink1URL: http://www.st.com; ComponentLink2Description: Datasheet; ComponentLink2URL: http://www.st.com/internet/com/TECHNICAL_RESOURCES/TECHNICAL_LITERATURE/DATASHEET/CD00144224.pdf
footprint VQFPN32_N (QFN, 32-Leads, Body 5x5mm, Pitch 0.5mm, Thermal Pad 3.1x3.1mm, IPC Medium Density)
footprint VQFPN32_L (QFN, 32-Leads, Body 5x5mm, Pitch 0.5mm, Thermal Pad 3.1x3.1mm, IPC High Density)
footprint VQFPN32_M (QFN, 32-Leads, Body 5x5mm, Pitch 0.5mm, Thermal Pad 3.1x3.1mm, IPC Low Density)
pins: 1 SGND (power), 2 COMP2, 3 FSEL (in), 4 EN2 (in), 5 SHDN (in), 6 FB2 (in), 7 LDO (power), 8 OUT2 (out), 9 BOOT2, 10 HGATE2 (hiz), 11 PHASE2 (in), 12 CSENSE2 (in), 13 LGATE2 (hiz), 14 PGND (power), 15 LGATE1 (hiz), 16 LDO FB (in), 17 V5SW (in), 18 LDO5 (power), 19 VIN (in), 20 CSENSE1 (in), 21 PHASE1 (in), 22 HGATE1 (hiz), 23 BOOT1, 24 SKIP (in), 25 EN1 (in), 26 PGOOD1 (oc), 27 PGOOD2 (oc), 28 FB1 (in), 29 OUT1 (out), 30 COMP1, 31 VCC (power), 32 VREF (power), 33 Thermal Pad (power)

## PM6686TR
designator U?
Dual step-down controller with adjustable voltages, adjustable LDO and auxiliary charge pump controller for notebook, 32-Pin VFQFPN, Tape and Reel; DatasheetVersion: Jul-2009; PackageVersion: 2008; PackageReference: VQFPN32; PackageDescription: 32-Pin Thermally Enhanced Very thin Fine pitch Quad Flat Package No-Lead, 5 x 5 x 1 mm Body, 0.5 mm Pitch, Exposed Pad; ComponentLink1Description: Manufacturer URL; ComponentLink1URL: http://www.st.com; ComponentLink2Description: Datasheet; ComponentLink2URL: http://www.st.com/internet/com/TECHNICAL_RESOURCES/TECHNICAL_LITERATURE/DATASHEET/CD00221380.pdf
footprint VQFPN32_N (QFN, 32-Leads, Body 5x5mm, Pitch 0.5mm, Thermal Pad 3.1x3.1mm, IPC Medium Density)
footprint VQFPN32_L (QFN, 32-Leads, Body 5x5mm, Pitch 0.5mm, Thermal Pad 3.1x3.1mm, IPC High Density)
footprint VQFPN32_M (QFN, 32-Leads, Body 5x5mm, Pitch 0.5mm, Thermal Pad 3.1x3.1mm, IPC Low Density)
pins: 1 VREF2 (power), 2 TON (in), 3 VCC (power), 4 EN_LDO (in), 5 VREF3 (power), 6 VIN (power), 7 LDO (power), 8 LDOREFIN (in), 9 LDO_SW (power), 10 OUT1 (out), 11 FB1 (in), 12 ILIM1 (in), 13 PG1 (oc), 14 EN1 (in), 15 HGATE1 (out), 16 PHASE1 (in), 17 BOOT1, 18 LGATE1 (out), 19 PVCC (power), 20 CP_FB, 21 GND (power), 22 PGND (power), 23 LGATE2 (out), 24 BOOT2, 25 PHASE2 (in), 26 HGATE2 (out), 27 EN2 (in), 28 PG2 (oc), 29 SKIP, 30 OUT2 (out), 31 ILIM2 (in), 32 REFIN2 (in), 33 Thermal Pad (power)

## ST1S03APUR
designator U?
1.5 A, 1.5 MHz adjustable, step-down switching regulator, 6-Pin DFN; DatasheetVersion: Jun-2008; PackageVersion: 2008; PackageReference: DFN6D; PackageDescription: 6-Pin Plastic, Dual LLP, 3 x 3 mm Body, 0.95 mm Pitch, Exposed Pad; ComponentLink1Description: Manufacturer URL; ComponentLink1URL: http://www.st.com; ComponentLink2Description: Datasheet; ComponentLink2URL: http://www.st.com/internet/com/TECHNICAL_RESOURCES/TECHNICAL_LITERATURE/DATASHEET/CD00105942.pdf
footprint DFN6D_N (SON, 6-Leads, Body 3x3mm, Pitch 0.95mm, Thermal Pad 2.4x1.65mm, IPC Medium Density)
footprint DFN6D_L (SON, 6-Leads, Body 3x3mm, Pitch 0.95mm, Thermal Pad 2.4x1.65mm, IPC High Density)
footprint DFN6D_M (SON, 6-Leads, Body 3x3mm, Pitch 0.95mm, Thermal Pad 2.4x1.65mm, IPC Low Density)
pins: 1 VFB (in), 2 GND (power), 3 SW (out), 4 VIN_SW (in), 5 VIN_A (in), 6 NC, 7 Thermal Pad

## ST1S03PUR
designator U?
1.5 A, 1.5 MHz adjustable, step-down switching regulator, DFN6D; DatasheetVersion: Mar-2008; PackageVersion: 2008; PackageReference: DFN6D; PackageDescription: 6-Pin Plastic, Dual LLP, 3 x 3 mm Body, 0.95 mm Pitch, Exposed Pad; ComponentLink1Description: Manufacturer URL; ComponentLink1URL: http://www.st.com; ComponentLink2Description: Datasheet; ComponentLink2URL: http://www.st.com/internet/com/TECHNICAL_RESOURCES/TECHNICAL_LITERATURE/DATASHEET/CD00046583.pdf
footprint DFN6D_N (SON, 6-Leads, Body 3x3mm, Pitch 0.95mm, Thermal Pad 2.4x1.65mm, IPC Medium Density)
footprint DFN6D_L (SON, 6-Leads, Body 3x3mm, Pitch 0.95mm, Thermal Pad 2.4x1.65mm, IPC High Density)
footprint DFN6D_M (SON, 6-Leads, Body 3x3mm, Pitch 0.95mm, Thermal Pad 2.4x1.65mm, IPC Low Density)
pins: 1 VFB (in), 2 GND (power), 3 SW (out), 4 VIN_SW (in), 5 VIN_A (in), 6 NC, 7 Thermal Pad

## ST1S06APUR
designator U?
Synchronous rectification, 1.5 A, 1.5 MHz adjustable, step-down switching regulator, 6-Pin DFN; DatasheetVersion: May-2009; PackageVersion: 2008; PackageReference: DFN6D; PackageDescription: 6-Pin Plastic, Dual LLP, 3 x 3 mm Body, 0.95 mm Pitch, Exposed Pad; ComponentLink1Description: Manufacturer URL; ComponentLink1URL: http://www.st.com; ComponentLink2Description: Datasheet; ComponentLink2URL: http://www.st.com/internet/com/TECHNICAL_RESOURCES/TECHNICAL_LITERATURE/DATASHEET/CD00100211.pdf
footprint DFN6D_N (SON, 6-Leads, Body 3x3mm, Pitch 0.95mm, Thermal Pad 2.4x1.65mm, IPC Medium Density)
footprint DFN6D_L (SON, 6-Leads, Body 3x3mm, Pitch 0.95mm, Thermal Pad 2.4x1.65mm, IPC High Density)
footprint DFN6D_M (SON, 6-Leads, Body 3x3mm, Pitch 0.95mm, Thermal Pad 2.4x1.65mm, IPC Low Density)
pins: 1 VO/VFB (io), 2 GND (power), 3 SW, 4 VIN_SW (in), 5 VIN_A (in), 6 NC, 7 Thermal Pad (power)

## ST1S06PU12R
designator U?
Synchronous rectification with inhibit, 1.5 A, 1.5 MHz adjustable, step-down switching regulator, 6-Pin DFN; DatasheetVersion: May-2009; PackageVersion: 2008; PackageReference: DFN6D; PackageDescription: 6-Pin Plastic, Dual LLP, 3 x 3 mm Body, 0.95 mm Pitch, Exposed Pad; ComponentLink1Description: Manufacturer URL; ComponentLink1URL: http://www.st.com; ComponentLink2Description: Datasheet; ComponentLink2URL: http://www.st.com/internet/com/TECHNICAL_RESOURCES/TECHNICAL_LITERATURE/DATASHEET/CD00100211.pdf
footprint DFN6D_N (SON, 6-Leads, Body 3x3mm, Pitch 0.95mm, Thermal Pad 2.4x1.65mm, IPC Medium Density)
footprint DFN6D_L (SON, 6-Leads, Body 3x3mm, Pitch 0.95mm, Thermal Pad 2.4x1.65mm, IPC High Density)
footprint DFN6D_M (SON, 6-Leads, Body 3x3mm, Pitch 0.95mm, Thermal Pad 2.4x1.65mm, IPC Low Density)
pins: 1 VO/VFB (io), 2 GND (power), 3 SW, 4 VIN_SW (in), 5 VIN_A (in), 6 VINH (in), 7 Thermal Pad (power)

## ST1S06PU33R
designator U?
Synchronous rectification with inhibit, 1.5 A, 1.5 MHz adjustable, step-down switching regulator, 6-Pin DFN; DatasheetVersion: May-2009; PackageVersion: 2008; PackageReference: DFN6D; PackageDescription: 6-Pin Plastic, Dual LLP, 3 x 3 mm Body, 0.95 mm Pitch, Exposed Pad; ComponentLink1Description: Manufacturer URL; ComponentLink1URL: http://www.st.com; ComponentLink2Description: Datasheet; ComponentLink2URL: http://www.st.com/internet/com/TECHNICAL_RESOURCES/TECHNICAL_LITERATURE/DATASHEET/CD00100211.pdf
footprint DFN6D_N (SON, 6-Leads, Body 3x3mm, Pitch 0.95mm, Thermal Pad 2.4x1.65mm, IPC Medium Density)
footprint DFN6D_L (SON, 6-Leads, Body 3x3mm, Pitch 0.95mm, Thermal Pad 2.4x1.65mm, IPC High Density)
footprint DFN6D_M (SON, 6-Leads, Body 3x3mm, Pitch 0.95mm, Thermal Pad 2.4x1.65mm, IPC Low Density)
pins: 1 VO/VFB (io), 2 GND (power), 3 SW, 4 VIN_SW (in), 5 VIN_A (in), 6 VINH (in), 7 Thermal Pad (power)

## ST1S06PUR
designator U?
Synchronous rectification with inhibit, 1.5 A, 1.5 MHz adjustable, step-down switching regulator, 6-Pin DFN; DatasheetVersion: May-2009; PackageVersion: 2008; PackageReference: DFN6D; PackageDescription: 6-Pin Plastic, Dual LLP, 3 x 3 mm Body, 0.95 mm Pitch, Exposed Pad; ComponentLink1Description: Manufacturer URL; ComponentLink1URL: http://www.st.com; ComponentLink2Description: Datasheet; ComponentLink2URL: http://www.st.com/internet/com/TECHNICAL_RESOURCES/TECHNICAL_LITERATURE/DATASHEET/CD00100211.pdf
footprint DFN6D_N (SON, 6-Leads, Body 3x3mm, Pitch 0.95mm, Thermal Pad 2.4x1.65mm, IPC Medium Density)
footprint DFN6D_L (SON, 6-Leads, Body 3x3mm, Pitch 0.95mm, Thermal Pad 2.4x1.65mm, IPC High Density)
footprint DFN6D_M (SON, 6-Leads, Body 3x3mm, Pitch 0.95mm, Thermal Pad 2.4x1.65mm, IPC Low Density)
pins: 1 VO/VFB (io), 2 GND (power), 3 SW, 4 VIN_SW (in), 5 VIN_A (in), 6 VINH (in), 7 Thermal Pad (power)

## ST1S09IPUR
designator U?
Synchronous rectification with inhibit, 2 A, 1.5 MHz adjustable, step-down switching regulator, 6-Pin DFN, Tape and Reel; DatasheetVersion: Apr-2010; PackageVersion: 2008; PackageReference: DFN6D; PackageDescription: 6-Pin Plastic, Dual LLP, 3 x 3 mm Body, 0.95 mm Pitch, Exposed Pad; ComponentLink1Description: Manufacturer URL; ComponentLink1URL: http://www.st.com; ComponentLink2Description: Datasheet; ComponentLink2URL: http://www.st.com/internet/com/TECHNICAL_RESOURCES/TECHNICAL_LITERATURE/DATASHEET/CD00162884.pdf
footprint DFN6D_N (SON, 6-Leads, Body 3x3mm, Pitch 0.95mm, Thermal Pad 2.4x1.65mm, IPC Medium Density)
footprint DFN6D_L (SON, 6-Leads, Body 3x3mm, Pitch 0.95mm, Thermal Pad 2.4x1.65mm, IPC High Density)
footprint DFN6D_M (SON, 6-Leads, Body 3x3mm, Pitch 0.95mm, Thermal Pad 2.4x1.65mm, IPC Low Density)
pins: 1 VFB (in), 2 GND (power), 3 SW (out), 4 VIN_SW (power), 5 VIN_A (power), 6 INH (in), 7 Exposed Pad (power)

## ST1S09PUR
designator U?
Synchronous rectification with inhibit, 2 A, 1.5 MHz adjustable, step-down switching regulator, 6-Pin DFN, Tape and Reel; DatasheetVersion: Apr-2010; PackageVersion: 2008; PackageReference: DFN6D; PackageDescription: 6-Pin Plastic, Dual LLP, 3 x 3 mm Body, 0.95 mm Pitch, Exposed Pad; ComponentLink1Description: Manufacturer URL; ComponentLink1URL: http://www.st.com; ComponentLink2Description: Datasheet; ComponentLink2URL: http://www.st.com/internet/com/TECHNICAL_RESOURCES/TECHNICAL_LITERATURE/DATASHEET/CD00162884.pdf
footprint DFN6D_N (SON, 6-Leads, Body 3x3mm, Pitch 0.95mm, Thermal Pad 2.4x1.65mm, IPC Medium Density)
footprint DFN6D_L (SON, 6-Leads, Body 3x3mm, Pitch 0.95mm, Thermal Pad 2.4x1.65mm, IPC High Density)
footprint DFN6D_M (SON, 6-Leads, Body 3x3mm, Pitch 0.95mm, Thermal Pad 2.4x1.65mm, IPC Low Density)
pins: 1 VFB (in), 2 GND (power), 3 SW (out), 4 VIN_SW (power), 5 VIN_A (power), 6 PG (oc), 7 Exposed Pad (power)

## ST1S10BPHR
designator U?
Monolithic synchronous step-down regulator, 8-Pin HSOP, Tape and Reel; DatasheetVersion: Mar-2011; PackageVersion: 2007; PackageReference: HSO-8; PackageDescription: 8-Pin Small Outline Integrated Circuit 1.27 mm Pitch; ComponentLink1Description: Manufacturer URL; ComponentLink1URL: http://www.st.com; ComponentLink2Description: Datasheet; ComponentLink2URL: http://www.st.com/internet/com/TECHNICAL_RESOURCES/TECHNICAL_LITERATURE/DATASHEET/CD00169322.pdf
footprint HSO-8_N (SOIC, 8-Leads, Body 4.9x3.9mm, Pitch 1.27mm, Thermal Pad, IPC Medium Density)
footprint HSO-8_L (SOIC, 8-Leads, Body 4.9x3.9mm, Pitch 1.27mm, Thermal Pad, IPC High Density)
footprint HSO-8_M (SOIC, 8-Leads, Body 4.9x3.9mm, Pitch 1.27mm, Thermal Pad, IPC Low Density)
pins: 1 VIN_A (power), 2 INH (EN) (in), 3 VFB (in), 4 AGND (power), 5 SYNC (in), 6 VIN_SW (power), 7 SW (out), 8 PGND (power), 9 EPAD (power)

## ST1S10PHR
designator U?
Monolithic synchronous step-down regulator, 8-Pin HSOP, Tape and Reel; DatasheetVersion: Mar-2011; PackageVersion: 2007; PackageReference: HSO-8; PackageDescription: 8-Pin Small Outline Integrated Circuit 1.27 mm Pitch; ComponentLink1Description: Manufacturer URL; ComponentLink1URL: http://www.st.com; ComponentLink2Description: Datasheet; ComponentLink2URL: http://www.st.com/internet/com/TECHNICAL_RESOURCES/TECHNICAL_LITERATURE/DATASHEET/CD00169322.pdf
footprint HSO-8_N (SOIC, 8-Leads, Body 4.9x3.9mm, Pitch 1.27mm, Thermal Pad, IPC Medium Density)
footprint HSO-8_L (SOIC, 8-Leads, Body 4.9x3.9mm, Pitch 1.27mm, Thermal Pad, IPC High Density)
footprint HSO-8_M (SOIC, 8-Leads, Body 4.9x3.9mm, Pitch 1.27mm, Thermal Pad, IPC Low Density)
pins: 1 VIN_A (power), 2 INH (EN) (in), 3 VFB (in), 4 AGND (power), 5 SYNC (in), 6 VIN_SW (power), 7 SW (out), 8 PGND (power), 9 EPAD (power)

## ST1S10PUR
designator U?
Monolithic synchronous step-down regulator, 8-Pin DFN, Tape and Reel; DatasheetVersion: Mar-2011; PackageVersion: 2009; PackageReference: DFN(4x4); PackageDescription: 8-Pin DFN, 4 x 4 mm Body, 0.8 mm Pitch, Exposed Pad; ComponentLink1Description: Manufacturer URL; ComponentLink1URL: http://www.st.com; ComponentLink2Description: Datasheet; ComponentLink2URL: http://www.st.com/internet/com/TECHNICAL_RESOURCES/TECHNICAL_LITERATURE/DATASHEET/CD00169322.pdf
footprint DFN(4x4)_N (SON, 8-Leads, Body 4x4mm, Pitch 0.8mm, Thermal Pad 3x2.2mm, IPC Medium Density)
footprint DFN(4x4)_L (SON, 8-Leads, Body 4x4mm, Pitch 0.8mm, Thermal Pad 3x2.2mm, IPC High Density)
footprint DFN(4x4)_M (SON, 8-Leads, Body 4x4mm, Pitch 0.8mm, Thermal Pad 3x2.2mm, IPC Low Density)
pins: 1 VIN_A (power), 2 INH (EN) (in), 3 VFB (in), 4 AGND (power), 5 SYNC (in), 6 VIN_SW (power), 7 SW (out), 8 PGND (power), 9 EPAD (power)

## ST1S12G12R
designator U?
Synchronous rectification with inhibit, 0.7 A, 1.7 MHz fixed, step-down switching regulator, 5-Pin TSOT, Tape and Reel; DatasheetVersion: Jun-2011; PackageVersion: 2011; PackageReference: TSOT23-5L; PackageDescription: 5-Pin SOT-23 Package, 2.9 x 1.6 mm Body, 0.95 mm Pitch, 2.8 mm Lead Span; ComponentLink1Description: Manufacturer URL; ComponentLink1URL: http://www.st.com; ComponentLink2Description: Datasheet; ComponentLink2URL: http://www.st.com/internet/com/TECHNICAL_RESOURCES/TECHNICAL_LITERATURE/DATASHEET/CD00181873.pdf
footprint TSOT23-5L_N (SOT23, 5-Leads, Body 2.9x1.6mm, Pitch 0.95mm, Lead Span 2.8mm, IPC Medium Density)
footprint TSOT23-5L_L (SOT23, 5-Leads, Body 2.9x1.6mm, Pitch 0.95mm, Lead Span 2.8mm, IPC High Density)
footprint TSOT23-5L_M (SOT23, 5-Leads, Body 2.9x1.6mm, Pitch 0.95mm, Lead Span 2.8mm, IPC Low Density)
pins: 1 EN (in), 2 GND (power), 3 SW (power), 4 VIN (power), 5 FB/VO (io)

## ST1S12G18R
designator U?
Synchronous rectification with inhibit, 0.7 A, 1.7 MHz fixed, step-down switching regulator, 5-Pin TSOT, Tape and Reel; DatasheetVersion: Jun-2011; PackageVersion: 2011; PackageReference: TSOT23-5L; PackageDescription: 5-Pin SOT-23 Package, 2.9 x 1.6 mm Body, 0.95 mm Pitch, 2.8 mm Lead Span; ComponentLink1Description: Manufacturer URL; ComponentLink1URL: http://www.st.com; ComponentLink2Description: Datasheet; ComponentLink2URL: http://www.st.com/internet/com/TECHNICAL_RESOURCES/TECHNICAL_LITERATURE/DATASHEET/CD00181873.pdf
footprint TSOT23-5L_N (SOT23, 5-Leads, Body 2.9x1.6mm, Pitch 0.95mm, Lead Span 2.8mm, IPC Medium Density)
footprint TSOT23-5L_L (SOT23, 5-Leads, Body 2.9x1.6mm, Pitch 0.95mm, Lead Span 2.8mm, IPC High Density)
footprint TSOT23-5L_M (SOT23, 5-Leads, Body 2.9x1.6mm, Pitch 0.95mm, Lead Span 2.8mm, IPC Low Density)
pins: 1 EN (in), 2 GND (power), 3 SW (power), 4 VIN (power), 5 FB/VO (io)

## ST1S12GR
designator U?
Synchronous rectification with inhibit, 0.7 A, 1.7 MHz adjustable, step-down switching regulator, 5-Pin TSOT, Tape and Reel; DatasheetVersion: Jun-2011; PackageVersion: 2011; PackageReference: TSOT23-5L; PackageDescription: 5-Pin SOT-23 Package, 2.9 x 1.6 mm Body, 0.95 mm Pitch, 2.8 mm Lead Span; ComponentLink1Description: Manufacturer URL; ComponentLink1URL: http://www.st.com; ComponentLink2Description: Datasheet; ComponentLink2URL: http://www.st.com/internet/com/TECHNICAL_RESOURCES/TECHNICAL_LITERATURE/DATASHEET/CD00181873.pdf
footprint TSOT23-5L_N (SOT23, 5-Leads, Body 2.9x1.6mm, Pitch 0.95mm, Lead Span 2.8mm, IPC Medium Density)
footprint TSOT23-5L_L (SOT23, 5-Leads, Body 2.9x1.6mm, Pitch 0.95mm, Lead Span 2.8mm, IPC High Density)
footprint TSOT23-5L_M (SOT23, 5-Leads, Body 2.9x1.6mm, Pitch 0.95mm, Lead Span 2.8mm, IPC Low Density)
pins: 1 EN (in), 2 GND (power), 3 SW (power), 4 VIN (power), 5 FB/VO (io)

## ST1S14PHR
designator U?
Up to 3 A step down switching regulator, 8-Pin HSOP; DatasheetVersion: Oct-2010; PackageVersion: 2007; PackageReference: HSO-8; PackageDescription: 8-Pin Small Outline Integrated Circuit 1.27 mm Pitch; ComponentLink1Description: Manufacturer URL; ComponentLink1URL: http://www.st.com; ComponentLink2Description: Datasheet; ComponentLink2URL: http://www.st.com/internet/com/TECHNICAL_RESOURCES/TECHNICAL_LITERATURE/DATASHEET/CD00285678.pdf
footprint HSO-8_N (SOIC, 8-Leads, Body 4.9x3.9mm, Pitch 1.27mm, Thermal Pad, IPC Medium Density)
footprint HSO-8_L (SOIC, 8-Leads, Body 4.9x3.9mm, Pitch 1.27mm, Thermal Pad, IPC High Density)
footprint HSO-8_M (SOIC, 8-Leads, Body 4.9x3.9mm, Pitch 1.27mm, Thermal Pad, IPC Low Density)
pins: 1 BOOT, 2 PG (oc), 3 ~{EN}1 (in), 4 FB (in), 5 EN2 (in), 6 GND (power), 7 VIN (power), 8 SW (power), 9 EP (power)

## ST2S06A33PQR
designator U?
Synchronous Rectification 0.5 A, 1.5 MHz step-down switching regulator, 12-Pin QFN, Tape and Reel; DatasheetVersion: Jul-2009; PackageVersion: 2010; PackageReference: QFN12L(4x4); PackageDescription: 12-Pin Quad Flat No-Lead, 4 x 4 mm Body, 0.8 mm Pitch, Exposed Pad; ComponentLink1Description: Manufacturer URL; ComponentLink1URL: http://www.st.com; ComponentLink2Description: Datasheet; ComponentLink2URL: http://www.st.com/internet/com/TECHNICAL_RESOURCES/TECHNICAL_LITERATURE/DATASHEET/CD00169763.pdf
footprint QFN12L(4x4)_N (QFN, 12-Leads, Body 4x4mm, Pitch 0.8mm, Thermal Pad 2.15x2.15mm, IPC Medium Density)
footprint QFN12L(4x4)_L (QFN, 12-Leads, Body 4x4mm, Pitch 0.8mm, Thermal Pad 2.15x2.15mm, IPC High Density)
footprint QFN12L(4x4)_M (QFN, 12-Leads, Body 4x4mm, Pitch 0.8mm, Thermal Pad 2.15x2.15mm, IPC Low Density)
pins: 1 HV, 2 FB2 (in), 3 GND2 (power), 4 SW2 (out), 5 VIN_SW (power), 6 SW1 (out), 7 GND1 (power), 8 FB1/OUT1 (io), 9 RST OUT (out), 10 NC, 11 VIN_A (power), 12 GND_A (power), 13 Exposed Pad (power)

## ST2S06BPQR
designator U?
Synchronous Rectification 0.5 A, 1.5 MHz step-down switching regulator, 12-Pin QFN, Tape and Reel; DatasheetVersion: Jul-2009; PackageVersion: 2010; PackageReference: QFN12L(4x4); PackageDescription: 12-Pin Quad Flat No-Lead, 4 x 4 mm Body, 0.8 mm Pitch, Exposed Pad; ComponentLink1Description: Manufacturer URL; ComponentLink1URL: http://www.st.com; ComponentLink2Description: Datasheet; ComponentLink2URL: http://www.st.com/internet/com/TECHNICAL_RESOURCES/TECHNICAL_LITERATURE/DATASHEET/CD00169763.pdf
footprint QFN12L(4x4)_N (QFN, 12-Leads, Body 4x4mm, Pitch 0.8mm, Thermal Pad 2.15x2.15mm, IPC Medium Density)
footprint QFN12L(4x4)_L (QFN, 12-Leads, Body 4x4mm, Pitch 0.8mm, Thermal Pad 2.15x2.15mm, IPC High Density)
footprint QFN12L(4x4)_M (QFN, 12-Leads, Body 4x4mm, Pitch 0.8mm, Thermal Pad 2.15x2.15mm, IPC Low Density)
pins: 1 HV, 2 FB2 (in), 3 GND2 (power), 4 SW2 (out), 5 VIN_SW (power), 6 SW1 (out), 7 GND1 (power), 8 FB1 (in), 9 NC, 10 INH (in), 11 VIN_A (power), 12 GND_A (power), 13 Exposed Pad (power)

## ST2S08BPQR
designator U?
Dual synchronous rectification, 1.5 A, 1.5 MHz adjustable step-down switching regulator, 12-Pin QFN, Tape and Reel; DatasheetVersion: Nov-2010; PackageVersion: 2010; PackageReference: QFN12L(4x4); PackageDescription: 12-Pin Quad Flat No-Lead, 4 x 4 mm Body, 0.8 mm Pitch, Exposed Pad; ComponentLink1Description: Manufacturer URL; ComponentLink1URL: http://www.st.com; ComponentLink2Description: Datasheet; ComponentLink2URL: http://www.st.com/internet/com/TECHNICAL_RESOURCES/TECHNICAL_LITERATURE/DATASHEET/CD00292806.pdf
footprint QFN12L(4x4)_N (QFN, 12-Leads, Body 4x4mm, Pitch 0.8mm, Thermal Pad 2.15x2.15mm, IPC Medium Density)
footprint QFN12L(4x4)_L (QFN, 12-Leads, Body 4x4mm, Pitch 0.8mm, Thermal Pad 2.15x2.15mm, IPC High Density)
footprint QFN12L(4x4)_M (QFN, 12-Leads, Body 4x4mm, Pitch 0.8mm, Thermal Pad 2.15x2.15mm, IPC Low Density)
pins: 1 HV, 2 FB2 (in), 3 GND2 (power), 4 SW2 (out), 5 VIN_SW (power), 6 SW1 (out), 7 GND1 (power), 8 FB1 (in), 9 NC, 10 INH (in), 11 VIN_A (power), 12 GND_A (power), 13 Exposed Pad (power)

## ST8R00WPUR
designator U?
Micropower step up DC/DC converter, 8-Pin DFN, Tape and Reel; DatasheetVersion: May-2007; PackageVersion: 2009; PackageReference: DFN(4x4); PackageDescription: 8-Pin DFN, 4 x 4 mm Body, 0.8 mm Pitch, Exposed Pad; ComponentLink1Description: Manufacturer URL; ComponentLink1URL: http://www.st.com; ComponentLink2Description: Datasheet; ComponentLink2URL: http://www.st.com/internet/com/TECHNICAL_RESOURCES/TECHNICAL_LITERATURE/DATASHEET/CD00157614.pdf
footprint DFN(4x4)_N (SON, 8-Leads, Body 4x4mm, Pitch 0.8mm, Thermal Pad 3x2.2mm, IPC Medium Density)
footprint DFN(4x4)_L (SON, 8-Leads, Body 4x4mm, Pitch 0.8mm, Thermal Pad 3x2.2mm, IPC High Density)
footprint DFN(4x4)_M (SON, 8-Leads, Body 4x4mm, Pitch 0.8mm, Thermal Pad 3x2.2mm, IPC Low Density)
pins: 1 LX, 2 PGND (power), 3 GND (power), 4 IN (power), 5 FB (in), 6 INH (in), 7 HV, 8 OUT (power), 9 Thermal Pad (power)

## ST619LBDR
designator U?
DC-DC converter regulated 5V charge pump, 8-Pin SO; DatasheetVersion: Nov-2007; PackageVersion: Dec-2002; PackageReference: SO8; PackageDescription: 8-Pin Small Outline Integrated Circuit 1.27 mm Pitch; Code_JEDEC: MS-012-AA; Code_IPC: SOIC127P600-8; ComponentLink1Description: Manufacturer URL; ComponentLink1URL: http://www.st.com; ComponentLink2Description: Datasheet; ComponentLink2URL: http://www.st.com/internet/com/TECHNICAL_RESOURCES/TECHNICAL_LITERATURE/DATASHEET/CD00002227.pdf; ComponentLink3Description: Package Specification; ComponentLink3URL: http://www.st.com/internet/com/TECHNICAL_RESOURCES/TECHNICAL_LITERATURE/PACKAGE_INFORMATION/CD00004680.pdf
footprint SO8_N (SOIC, 8-Leads, Body 4.9x3.9mm, Pitch 1.27mm, IPC Medium Density)
footprint SO8_L (SOIC, 8-Leads, Body 4.9x3.9mm, Pitch 1.27mm, IPC High Density)
footprint SO8_M (SOIC, 8-Leads, Body 4.9x3.9mm, Pitch 1.27mm, IPC Low Density)
pins: 1 C1+, 2 IN (power), 3 OUT (power), 4 C2+, 5 C2-, 6 GND (power), 7 SHDN (in), 8 C1-

## STLDC08PUR
designator U?
Step-up controller for LED supply, 10-Pin DFN; DatasheetVersion: Feb-2011; PackageVersion: 2010; PackageReference: DFN10(3x3); PackageDescription: 10-Pin DFN, 3 x 3 x 1 mm Body, 0.5 mm Pitch, Exposed Pad; ComponentLink1Description: Manufacturer URL; ComponentLink1URL: http://www.st.com; ComponentLink2Description: Datasheet; ComponentLink2URL: http://www.st.com/internet/com/TECHNICAL_RESOURCES/TECHNICAL_LITERATURE/DATASHEET/CD00299098.pdf
footprint DFN10(3x3)_N (SON, 10-Leads, Body 3x3mm, Pitch 0.5mm, Thermal Pad 2.45x1.6mm, IPC Medium Density)
footprint DFN10(3x3)_L (SON, 10-Leads, Body 3x3mm, Pitch 0.5mm, Thermal Pad 2.45x1.6mm, IPC High Density)
footprint DFN10(3x3)_M (SON, 10-Leads, Body 3x3mm, Pitch 0.5mm, Thermal Pad 2.45x1.6mm, IPC Low Density)
pins: 1 VOUT (power), 2 PWMOUT (out), 3 2VCC (power), 4 VCC (power), 5 FB (in), 6 SENSE, 7 EN/PWM (in), 8 GND (power), 9 DRV (out), 10 V5 (power), 11 Exposed Pad (power)

## STOD1812PUR
designator U?
Power supply for PMOLED display panel, 10-Pin DFN; DatasheetVersion: Mar-2008; PackageVersion: 2008; PackageReference: DFN10L; PackageDescription: 10-Pin DFN, 3 x 3 x 0.8 mm Body, 0.5 mm Pitch, Exposed Pad; ComponentLink1Description: Manufacturer URL; ComponentLink1URL: http://www.st.com; ComponentLink2Description: Datasheet; ComponentLink2URL: http://www.st.com/internet/com/TECHNICAL_RESOURCES/TECHNICAL_LITERATURE/DATASHEET/CD00189682.pdf
footprint DFN10L_V (SON, 10-Leads, Body 3x3 mm, Pitch 0.5mm, Thermal Pad 2.48x1.74mm, ST Recommended)
pins: 1 OUT (power), 2 OUT (power), 3 GND (power), 4 FB (in), 5 EN (in), 6 VI (power), 7 LX (oc), 8 LX (oc), 9 PGND (power), 10 PGND (power), 11 EXP PAD (power)

## STOD2540PUR
designator U?
PMOLED display power supply, 8-Pin QFN; DatasheetVersion: Jul-2010; PackageVersion: 2011; PackageReference: QFN8; PackageDescription: 8-Pin Dual Flat No-Lead, 3 x 3 mm Body, 0.65 mm Pitch, Exposed Pad; ComponentLink1Description: Manufacturer URL; ComponentLink1URL: http://www.st.com; ComponentLink2Description: Datasheet; ComponentLink2URL: http://www.st.com/internet/com/TECHNICAL_RESOURCES/TECHNICAL_LITERATURE/DATASHEET/CD00098100.pdf
footprint QFN8_V (SON, 8-Leads, Body 3x3mm, Pitch 0.65mm, Thermal Pad 2.74x2mm, ST Recommended)
pins: 1 VI (power), 2 RSET, 3 AGND (power), 4 FB (in), 5 VO (power), 6 VCAP (in), 7 EN (in), 8 VSW, 9 PGND (power)